# Altium schematic symbol library GENERIC_NPN_CEB.Schlib: 1 symbol
Pins are listed as number, name and electrical type; pins without a type are passive.

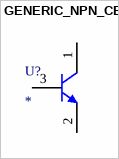
[diagram p0: symbol GENERIC_NPN_CEB]

## GENERIC_NPN_CEB
designator U?
pins: 1 C, 2 E, 3 B